# EAGLE library part SEEED_XIAO_RP2040_HOLE (library Seeed_XIAO)
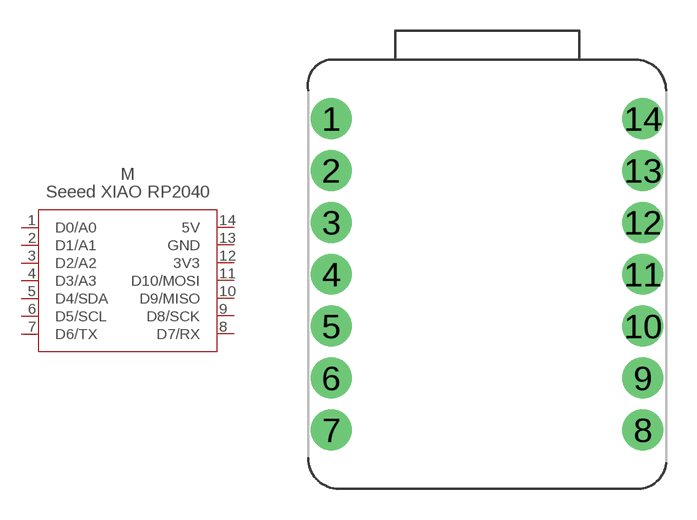
[diagram p0: symbol with the pads of SEEED_XIAO_HOLE; footprint SEEED_XIAO_HOLE]

Designator prefix M

## SEEED_XIAO_RP2040_HOLE  [SEEED_XIAO_HOLE]
1  D0/A0
2  D1/A1
3  D2/A2
4  D3/A3
5  D4/SDA
6  D5/SCL
7  D6/TX
8  D7/RX
9  D8/SCK
10  D9/MISO
11  D10/MOSI
12  3V3
13  GND
14  5V

## Footprint SEEED_XIAO_HOLE (pad centres in mm)
drill 1 pad 2: 1 -7.62,-2.88; 2 -7.62,-5.42; 3 -7.62,-7.96; 4 -7.62,-10.5; 5 -7.62,-13.04; 6 -7.62,-15.58; 7 -7.62,-18.12; 8 7.62,-18.12; 9 7.62,-15.58; 10 7.62,-13.04; 11 7.62,-10.5; 12 7.62,-7.96; 13 7.62,-5.42; 14 7.62,-2.88